# Altium schematic symbol library LFI Power BoardSchlib1.SchLib: 48 symbols
Pins are listed as number, name and electrical type; pins without a type are passive.

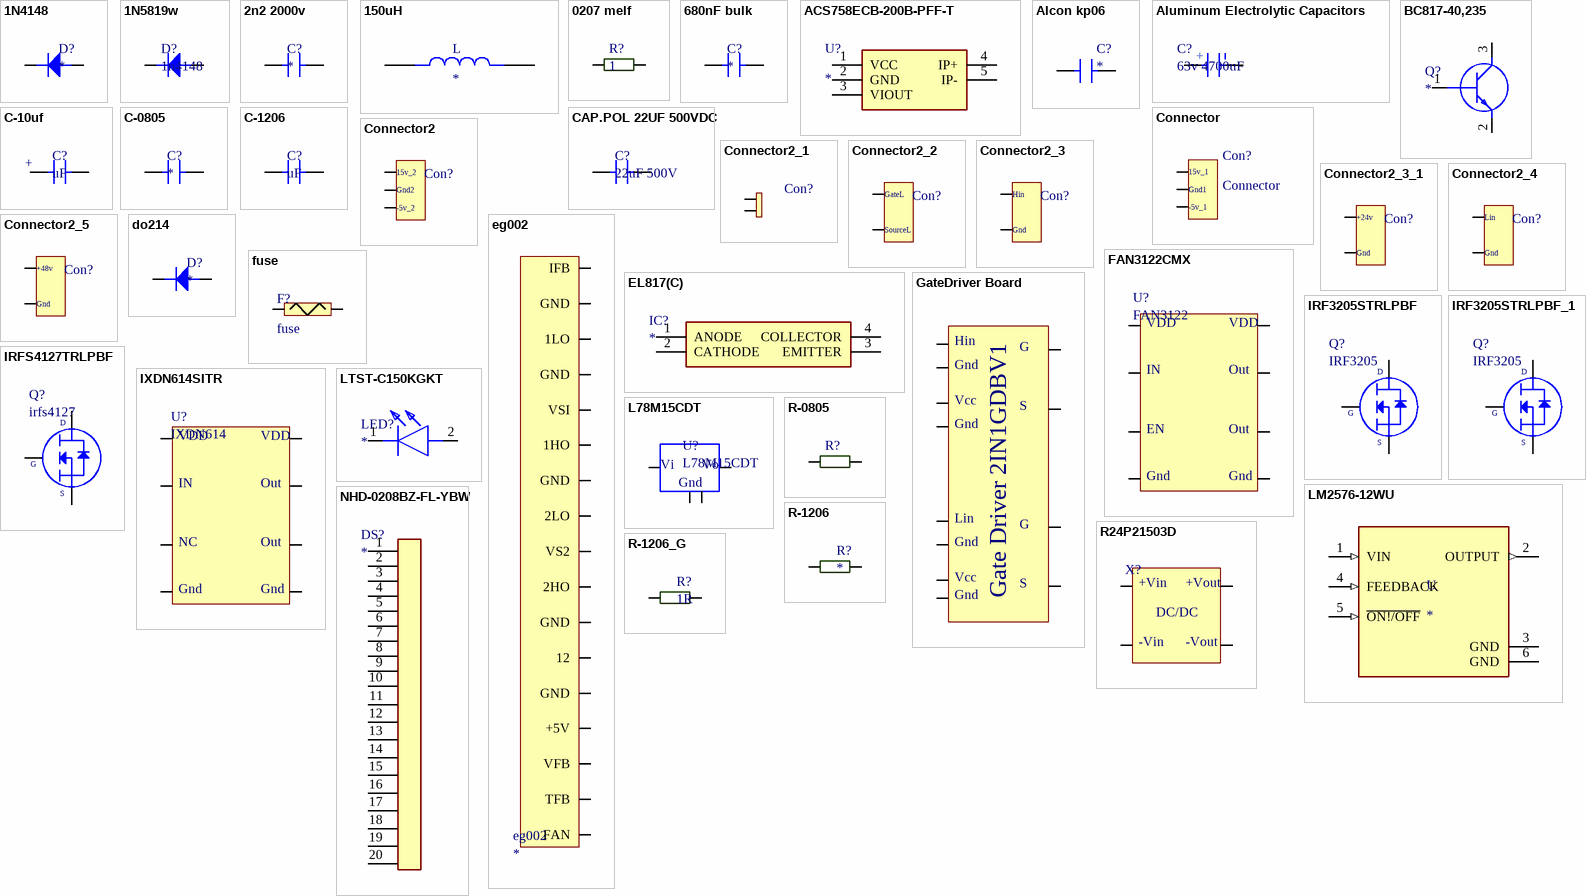
[diagram p0: symbols 1N4148 to R-1206_G]

## 1N4148
designator D?
DIODE FAST SWITCHING Single 150mA 75V SMT SOD323
footprint SOD123
pins: a, k

## 1N5819w
designator D?, comment 1n4148
Diode Small Signal Switching 100V 0.15A 2-Pin SOD-123 T/R; Manufacturer: Vishay; Manufacturer Part Number: 1N4148W-E3-18; Recovery Time: 4ns; Max Power Dissipation: 350mW; Forward Current: 150mA; Max Surge Current: 2A; Forward Voltage: 1.2V; Max Reverse Leakage Current: 5uA; Element Configuration: Single; Max Reverse Voltage (DC): 75V; Peak Reverse Current: 100uA; Supplier 1: Allied Electronics; RoHS: Yes; Stock 1: 6838; Pricing 1: 1 = 0.03900, 25 = 0.03800, 100 = 0.03600, 250 = 0.03400, 500 = 0.03200, 1000 = 0.03100, 2500 = 0.02900 (USD); Mount: Surface Mount; Number of Pins: 2; Weight: 0.000363oz; Contact Plating: Tin; Min Operating Temperature: -55°C; Max Operating Temperature: 150°C; Packaging: Tape and Reel; Package Quantity: 10000; Average Rectified Current: 150mA; Reverse Recovery Time: 4ns; Power Dissipation: 350mW; Max Repetitive Reverse Voltage (Vrrm): 100V; Peak Non-Repetitive Surge Current: 2A; Length: 2.85mm; Height: 1.25mm; Width: 1.7mm; Radiation Hardening: No; Lead Free: Lead Free; ComponentLink1URL: https://datasheet.ciiva.com/29885/1n4148w-29885941.pdf?src-supplier=Avnet; ComponentLink1Description: https://datasheet.ciiva.com/29885/1n4148w-29885941.pdf?src-supplier=Avnet; ComponentLink2URL: https://datasheet.ciiva.com/29593/1n4148w-29593113.pdf?src-supplier=Digi-Key; ComponentLink2Description: https://datasheet.ciiva.com/29593/1n4148w-29593113.pdf?src-supplier=Digi-Key; ComponentLink3URL: https://datasheet.ciiva.com/29593/1n4148w-29593111.pdf?src-supplier=Digi-Key; ComponentLink3Description: https://datasheet.ciiva.com/29593/1n4148w-29593111.pdf?src-supplier=Digi-Key; ComponentLink4URL: https://datasheet.ciiva.com/29593/1n4148w-29593112.pdf?src-supplier=Digi-Key; ComponentLink4Description: https://datasheet.ciiva.com/29593/1n4148w-29593112.pdf?src-supplier=Digi-Key; Supplier Part Number 1: 70061597
footprint SOD123
pins: a, k

## 2n2 2000v
designator C?
footprint 2n2 2000v
pins: 1, 2

## 150uH
designator L
Inductor with Inductance: 150uH Tol. +/-20%, Package: 2929 _7373_; MF: Murata; MP: B1047AS-151M=P3; Value: *; SnapEDA_Link: https://www.snapeda.com/parts/B1047AS-151M%3DP3/Murata/view-part/4548598/?ref=snap; Availability: Unavailable; Package: NONSTANDARD; Price: None
footprint IND_B1047AS-151M=P3
pins: 1, 2

## 0207 melf
designator R?, comment 1
ComponentLink1Description: https://www.ozdisan.com/pasif-komponentler/direncler/smt-smd-direncler/M271UFG100KT20; ComponentLink1URL: https://www.ozdisan.com/pasif-komponentler/direncler/smt-smd-direncler/M271UFG100KT20
footprint R-2512W (resistor 2512 wave soldering)
pins: 1, 2

## 680nF bulk
designator C?
footprint 680nF bulk
pins: 1, 2

## ACS758ECB-200B-PFF-T
designator U?
Undefined or Miscellaneous; Manufacturer_Name: Allegro Microsystems; Manufacturer_Part_Number: ACS758ECB-200B-PFF-T; Datasheet Link: http://www.farnell.com/datasheets/926109.pdf; Arrow Part Number: ACS758ECB-200B-PFF-T; Arrow Price/Stock: https://www.arrow.com/en/products/acs758ecb-200b-pff-t/allegro-microsystems
footprint ACS756SCA-050B-PFF-T_2
pins: 1 VCC, 2 GND, 3 VIOUT, 4 IP+, 5 IP-

## Alcon kp06
designator C?
footprint AlconKp06
pins: 1, 2

## Aluminum Electrolytic Capacitors
designator C?, comment 63v 4700uF
PKL5-063V472MM450 Aluminum Electrolytic Capacitors - Snap In 63volts 4700uF 20%; Manufacturer: Nichicon; Manufacturer Part Number: LKS1J472MESZ; Capacitance: 4.7mF; Ripple Current: 3A; Life (Hours): 1000Hour; Supplier 1: Mouser; RoHS: Yes; Mount: Through Hole; Case/Package: Radial; Min Operating Temperature: -40°C; Max Operating Temperature: 85°C; Package Quantity: 250; Voltage Rating: 63V; Tolerance: 20%; Packaging: Bulk; Voltage Rating (DC): 63V; Termination: Snap in; Diameter: 22mm; Length: 45mm; Lead Pitch: 0.394inch; Height - Seated (Max): 1.772inch; Supplier Part Number 1: 647-LKS1J472MESZ; ComponentLink2Description: https://www.ozdisan.com/pasif-komponentler/kondansatorler/aluminyum-kondansatorler/PKL5-063V472MM450; ComponentLink2URL: https://www.ozdisan.com/pasif-komponentler/kondansatorler/aluminyum-kondansatorler/PKL5-063V472MM450
footprint Koshin 63v 4700 cap
pins: 1, 2
text: +

## BC817-40,235
designator Q?
Transistor BJT NPN; Manufacturer_Name: Nexperia; Manufacturer_Part_Number: BC817-40,235; Datasheet Link: http://assets.nexperia.com/documents/data-sheet/BC817_BC817W_BC337.pdf; Height: 1.1mm; Mouser Part Number: 771-BC817-40235; Mouser Price/Stock: https://www.mouser.com/Search/Refine.aspx?Keyword=771-BC817-40235; RS Part Number: 1707957; RS Price/Stock: http://uk.rs-online.com/web/p/products/1707957
footprint SOT95P230X110-3N
pins: 1 B, 2 E, 3 C

## C-10uf
designator C?, comment uF
footprint CapSmdElc (Aluminum Electrolytic Capacitor, Body 6.70x6.70x6.30mm, IPC Low Density)
pins: 1, 2
text: +

## C-0805
designator C?
footprint C-0805
footprint C-0805
pins: 1, 2

## C-1206
designator C?, comment uF
footprint C-1206
pins: 1, 2

## CAP.POL 22UF 500VDC
designator C?, comment 22uF 500V
ComponentLink1Description: https://www.ozdisan.com/pasif-komponentler/kondansatorler/film-kondansatorler/C3D2H226JB00C00; ComponentLink1URL: https://www.ozdisan.com/pasif-komponentler/kondansatorler/film-kondansatorler/C3D2H226JB00C00
footprint CAP.POL 22UF 500VDC - duplicate
pins: 1, 2

## Connector
designator Con?
footprint Output Connector
pins: 1, 2, 3
text: 15v_1; Gnd1; -5v_1

## Connector2
designator Con?  (value not drawn)
footprint Output Connector
pins: 1, 2, 3
text: 15v_2; Gnd2; -5v_2

## Connector2_1
designator Con?  (value not drawn)
System: Connector
footprint 2pinCon
pins: 1, 2

## Connector2_2
designator Con?  (value not drawn)
System: Connector
footprint Conn
pins: 1, 2
text: GateL; SourceL

## Connector2_3
designator Con?  (value not drawn)
System: Connector
footprint Conn
pins: 1, 2
text: Hin; Gnd

## Connector2_3_1
designator Con?  (value not drawn)
System: Connector
footprint Conn
pins: 1, 2
text: +24v; Gnd

## Connector2_4
designator Con?  (value not drawn)
System: Connector
footprint Conn
pins: 1, 2
text: Lin; Gnd

## Connector2_5
designator Con?  (value not drawn)
System: Connector
footprint Conn
pins: 1, 2
text: +48v; Gnd

## do214
designator D?
DIODE FAST SWITCHING Single 150mA 75V SMT SOD323
footprint DO-214AC
pins: a, k

## eg002
designator eg002
footprint eg002
footprint eg002
pins: 1 IFB, 2 GND, 3 1LO, 4 GND, 5 VSI, 6 1HO, 7 GND, 8 2LO, 9 VS2, 10 2HO, 11 GND, 12, 13 GND, 14 +5V, 15 VFB, 16 TFB, 17 FAN

## EL817(C)
designator IC?
Integrated Circuit; Manufacturer_Name: Everlight; Manufacturer_Part_Number: EL817(C); Datasheet Link: https://componentsearchengine.com/Datasheets/1/EL817(C).pdf; Height: 4.8mm; Mouser Part Number: 638-EL817C; Mouser Price/Stock: https://www.mouser.com/Search/Refine.aspx?Keyword=638-EL817C
footprint DIP762W60P254L458H480Q4N
pins: 1 ANODE, 2 CATHODE, 3 EMITTER, 4 COLLECTOR

## FAN3122CMX
designator U?, comment FAN3122
FAIRCHILD SEMICONDUCTOR         FAN3122CMX             MOSFET Driver, Low Side, 4.5V-18V Supply, 11.4A Out, 18ns Delay, SOIC-8; Manufacturer: ON Semiconductor / Fairchild; Min Supply Voltage: 4.5V; Max Supply Voltage: 18V; Rise Time: 29ns; Propagation Delay: 28ns; Number of Outputs: 1; Output Current: 9.7A; Nominal Supply Current: 580uA; Max Power Dissipation: 396mW; Fall Time: 27ns; Max Supply Current: 850uA; Operating Supply Voltage: 12V; Supplier 1: Digi-Key; Manufacturer Part Number: FAN3122CMX; RoHS: Yes; Stock 1: 11955; Pricing 1: 1 = 1.61000, 10 = 1.44700, 100 = 1.16280, 500 = 0.95532, 1000 = 0.79156 (USD); Mount: Surface Mount; Case/Package: SOIC; Number of Pins: 8; Weight: 0.2304g; Min Operating Temperature: -40°C; Max Operating Temperature: 125°C; Max Output Current: 11.4A; Packaging: Tape and Reel; Package Quantity: 1; Number of Drivers: 1; Turn-On Delay Time: 28ns; Length: 4.9mm; Height: 1.575mm; Width: 3.9mm; Radiation Hardening: No; REACH SVHC: No SVHC; Lead Free: Lead Free; ComponentLink1URL: https://datasheet.ciiva.com/15110/getdatasheetpartid-552243-15110699.pdf?src-supplier=Verical; ComponentLink1Description: https://datasheet.ciiva.com/15110/getdatasheetpartid-552243-15110699.pdf?src-supplier=Verical; ComponentLink2URL: https://datasheet.ciiva.com/1499/1880992-1499158.pdf?src-supplier=Element14; ComponentLink2Description: https://datasheet.ciiva.com/1499/1880992-1499158.pdf?src-supplier=Element14; ComponentLink3URL: https://datasheet.ciiva.com/1949/fan3121c-1949736.pdf?src-supplier=Digi-Key; ComponentLink3Description: https://datasheet.ciiva.com/1949/fan3121c-1949736.pdf?src-supplier=Digi-Key; ComponentLink4URL: https://datasheet.ciiva.com/1949/fan3121c-1949737.pdf?src-supplier=Digi-Key; ComponentLink4Description: https://datasheet.ciiva.com/1949/fan3121c-1949737.pdf?src-supplier=Digi-Key; ComponentLink5URL: https://datasheet.ciiva.com/3226/fan3122c-3226953.pdf?src-supplier=Avnet; ComponentLink5Description: https://datasheet.ciiva.com/3226/fan3122c-3226953.pdf?src-supplier=Avnet; ComponentLink6URL: https://datasheet.ciiva.com/1949/fan3121c-1949738.pdf?src-supplier=Digi-Key; ComponentLink6Description: https://datasheet.ciiva.com/1949/fan3121c-1949738.pdf?src-supplier=Digi-Key; ComponentLink7URL: https://datasheet.ciiva.com/48696/001252336-da-01-en-ic-gate-dvr-sgl-9a-fan3122cmx-soic-8-fsc-48696086.pdf?src-supplier=Conrad; ComponentLink7Description: https://datasheet.ciiva.com/48696/001252336-da-01-en-ic-gate-dvr-sgl-9a-fan3122cmx-soic-8-fsc-48696086.pdf?src-supplier=Conrad; Supplier Part Number 1: FAN3122CMXCT-ND
footprint FAN3122 Soic8 (SOIC, 8-Leads, Body 4.95x3.95mm, Pitch 1.27mm, Thermal Pad 4.10x3.10mm, IPC Medium Density)
pins: 1, 2, 3, 4, 5, 6, 7, 8
text: VDD; IN; Out; EN; Gnd

## fuse
designator F?
footprint Fuse
pins: 1, 2

## GateDriver Board
designator G?  (value not drawn)
footprint Gate Driver
pins: 1, 2, 3, 4, 5, 6, 7, 8, 9, 10, 11, 12
text: Hin; G; Gnd; Vcc; S; Lin; Gate Driver 2IN1GDBV1

## IRF3205STRLPBF
designator Q?, comment IRF3205
MOSFET N-CH 55V 110A D2PAK; Manufacturer: Infineon; Manufacturer Part Number: IRF3205STRLPBF; Rds On Max: 8mR; Input Capacitance: 3.247nF; Max Power Dissipation: 200W; Turn-Off Delay Time: 50ns; Turn-On Delay Time: 14ns; Gate to Source Voltage (Vgs): 20V; Threshold Voltage: 4V; Supplier 1: Digi-Key; RoHS: Yes; Stock 1: 3281; Pricing 1: 1 = 1,84000, 10 = 1,66600, 100 = 1,33840 (USD); Mount: Surface Mount; Case/Package: D2PAK; Number of Pins: 3; Min Operating Temperature: -55°C; Max Operating Temperature: 175°C; Packaging: Cut Tape; Drain to Source Voltage (Vdss): 55V; Continuous Drain Current (ID): 110A; Power Dissipation: 200W; Drain to Source Resistance: 8mR; Drain to Source Breakdown Voltage: 55V; Length: 0.42inch; Height: 0.19inch; Width: 0.38inch; REACH SVHC: No SVHC; Lead Free: Lead Free; ComponentLink1URL: https://www.alliedelec.com/m/d/b8827ca43655240244f0cc5c2198e6b1.pdf?src-supplier=Allied+Electronics; ComponentLink1Description: https://www.alliedelec.com/m/d/b8827ca43655240244f0cc5c2198e6b1.pdf?src-supplier=Allied+Electronics; ComponentLink2URL: https://www.infineon.com/dgdl/irf3205spbf.pdf?fileId=5546d462533600a4015355defac9190c&src-supplier=Digi-Key; ComponentLink2Description: https://www.infineon.com/dgdl/irf3205spbf.pdf?fileId=5546d462533600a4015355defac9190c&src-supplier=Digi-Key; ComponentLink3URL: http://www.infineon.com/dgdl/irf3205spbf.pdf?fileId=5546d462533600a4015355defac9190c&src-supplier=Digi-Key; ComponentLink3Description: http://www.infineon.com/dgdl/irf3205spbf.pdf?fileId=5546d462533600a4015355defac9190c&src-supplier=Digi-Key; ComponentLink4URL: http://www.farnell.com/datasheets/1884183.pdf?src-supplier=Element14; ComponentLink4Description: http://www.farnell.com/datasheets/1884183.pdf?src-supplier=Element14; Supplier Part Number 1: IRF3205STRLPBFCT-ND
footprint DPAK_TO263 (D2-PAK, 3-Pads, Body 7.93x8.70mm (max), IPC Medium Density)
footprint DPAK_TO263 (D2-PAK, 3-Pads, Body 7.93x8.70mm (max), IPC Medium Density)
pins: 1, 2, 3
text: D; G; S

## IRF3205STRLPBF_1
designator Q?, comment IRF3205
MOSFET N-CH 55V 110A D2PAK; Manufacturer: Infineon; Manufacturer Part Number: IRF3205STRLPBF; Rds On Max: 8mR; Input Capacitance: 3.247nF; Max Power Dissipation: 200W; Turn-Off Delay Time: 50ns; Turn-On Delay Time: 14ns; Gate to Source Voltage (Vgs): 20V; Threshold Voltage: 4V; Supplier 1: Digi-Key; RoHS: Yes; Stock 1: 3281; Pricing 1: 1 = 1,84000, 10 = 1,66600, 100 = 1,33840 (USD); Mount: Surface Mount; Case/Package: D2PAK; Number of Pins: 3; Min Operating Temperature: -55°C; Max Operating Temperature: 175°C; Packaging: Cut Tape; Drain to Source Voltage (Vdss): 55V; Continuous Drain Current (ID): 110A; Power Dissipation: 200W; Drain to Source Resistance: 8mR; Drain to Source Breakdown Voltage: 55V; Length: 0.42inch; Height: 0.19inch; Width: 0.38inch; REACH SVHC: No SVHC; Lead Free: Lead Free; ComponentLink1URL: https://www.alliedelec.com/m/d/b8827ca43655240244f0cc5c2198e6b1.pdf?src-supplier=Allied+Electronics; ComponentLink1Description: https://www.alliedelec.com/m/d/b8827ca43655240244f0cc5c2198e6b1.pdf?src-supplier=Allied+Electronics; ComponentLink2URL: https://www.infineon.com/dgdl/irf3205spbf.pdf?fileId=5546d462533600a4015355defac9190c&src-supplier=Digi-Key; ComponentLink2Description: https://www.infineon.com/dgdl/irf3205spbf.pdf?fileId=5546d462533600a4015355defac9190c&src-supplier=Digi-Key; ComponentLink3URL: http://www.infineon.com/dgdl/irf3205spbf.pdf?fileId=5546d462533600a4015355defac9190c&src-supplier=Digi-Key; ComponentLink3Description: http://www.infineon.com/dgdl/irf3205spbf.pdf?fileId=5546d462533600a4015355defac9190c&src-supplier=Digi-Key; ComponentLink4URL: http://www.farnell.com/datasheets/1884183.pdf?src-supplier=Element14; ComponentLink4Description: http://www.farnell.com/datasheets/1884183.pdf?src-supplier=Element14; Supplier Part Number 1: IRF3205STRLPBFCT-ND
footprint DPAK_TO263 (D2-PAK, 3-Pads, Body 7.93x8.70mm (max), IPC Medium Density)
footprint DPAK_TO263 (D2-PAK, 3-Pads, Body 7.93x8.70mm (max), IPC Medium Density)
pins: 1, 2, 3
text: D; G; S

## IRFS4127TRLPBF
designator Q?, comment irfs4127
MOSFET N-CH 200V 72A D2PAK; Manufacturer: International Rectifier; Manufacturer Part Number: IRFS4127TRLPBF; Rds On Max: 22mR; Input Capacitance: 5.38nF; Rise Time: 18ns; Max Power Dissipation: 375W; Fall Time: 22ns; Turn-Off Delay Time: 56ns; Turn-On Delay Time: 17ns; Element Configuration: Single; Gate to Source Voltage (Vgs): 20V; Supplier 1: Digi-Key; RoHS: Yes; Stock 1: 15054; Pricing 1: 1 = 3,97000, 10 = 3,54100, 100 = 2,90330 (USD); Mount: Surface Mount; Case/Package: D2PAK; Number of Pins: 3; Min Operating Temperature: -55°C; Max Operating Temperature: 175°C; Package Quantity: 1; Packaging: Tape and Reel; Drain to Source Voltage (Vdss): 200V; Continuous Drain Current (ID): 72A; Drain to Source Breakdown Voltage: 200V; Drain to Source Resistance: 22mR; Power Dissipation: 375W; On-State Resistance: 22MR; ComponentLink1URL: https://datasheet.ciiva.com/939/irfs4127pbf-939456.pdf?src-supplier=Digi-Key; ComponentLink1Description: https://datasheet.ciiva.com/939/irfs4127pbf-939456.pdf?src-supplier=Digi-Key; ComponentLink2URL: https://datasheet.ciiva.com/939/irfs4127pbf-939457.pdf?src-supplier=Digi-Key; ComponentLink2Description: https://datasheet.ciiva.com/939/irfs4127pbf-939457.pdf?src-supplier=Digi-Key; ComponentLink3URL: https://datasheet.ciiva.com/939/irfs4127pbf-939458.pdf?src-supplier=Digi-Key; ComponentLink3Description: https://datasheet.ciiva.com/939/irfs4127pbf-939458.pdf?src-supplier=Digi-Key; ComponentLink4URL: https://datasheet.ciiva.com/16221/irfs4127pbf-16221031.pdf?src-supplier=Future+Electronics; ComponentLink4Description: https://datasheet.ciiva.com/16221/irfs4127pbf-16221031.pdf?src-supplier=Future+Electronics; Supplier Part Number 1: IRFS4127TRLPBFCT-ND
footprint DPAK_TO263 (D2-PAK, 3-Pads, Body 7.93x8.70mm (max), IPC Medium Density)
footprint DPAK_TO263 (D2-PAK, 3-Pads, Body 7.93x8.70mm (max), IPC Medium Density)
pins: 1, 2, 3
text: D; G; S

## IXDN614SITR
designator U?, comment IXDN614
14A 8SOIC EXP MTL NON INVERTING; Manufacturer: Ixys Clare; Manufacturer Part Number: IXDN614SITR; Rise Time: 35ns; Propagation Delay: 70ns; Max Supply Voltage: 35V; Min Supply Voltage: 4.5V; Number of Outputs: 1; Fall Time: 25ns; Supplier 1: Mouser; RoHS: Yes; Pricing 1: 1 = 4.24000, 10 = 3.79000, 50 = 3.41000, 100 = 3.10000, 1000 = 2.12000, 10000 = 1.90000 (USD); Mount: Surface Mount; Case/Package: SOIC; Number of Pins: 8; Min Operating Temperature: -40°C; Max Operating Temperature: 125°C; Max Output Current: 14A; Packaging: Tape and Reel; Package Quantity: 2000; Number of Drivers: 1; Lead Free: Lead Free; ComponentLink1URL: https://datasheet.ciiva.com/6613/ixd-614-6613145.pdf?src-supplier=Digi-Key; ComponentLink1Description: https://datasheet.ciiva.com/6613/ixd-614-6613145.pdf?src-supplier=Digi-Key; Supplier Part Number 1: 849-IXDN614SITR
footprint FAN3122 Soic8 (SOIC, 8-Leads, Body 4.95x3.95mm, Pitch 1.27mm, Thermal Pad 4.10x3.10mm, IPC Medium Density)
pins: 1, 2, 3, 4, 5, 6, 7, 8
text: VDD; IN; Out; NC; Gnd

## L78M15CDT
designator U?
Linear Voltage Regulators 15V 0.5A Positive; Manufacturer: STMicroelectronics; Max Output Current: 500mA; Number of Outputs: 1; Max Input Voltage: 35V; Quiescent Current: 6mA; Output Type: Fixed; Dropout Voltage: 2V; Supplier 1: Avnet; Manufacturer Part Number: L78M15CDT; RoHS: Yes; Mount: Surface Mount; Case/Package: DPAK; Number of Pins: 3; Min Operating Temperature: 0°C; Max Operating Temperature: 150°C; Output Voltage: 15V; Polarity: Positive; Packaging: Rail/Tube; Output Current: 500mA; Min Input Voltage: 35V; Package Quantity: 75; Length: 6.6mm; Height: 2.4mm; Width: 6.2mm; Radiation Hardening: No; ComponentLink1URL: http://docs-usa.electrocomponents.com/techlib:/itc_doclist_US.htm?stockno=1890999&src-supplier=Allied+Electronics; ComponentLink1Description: http://docs-usa.electrocomponents.com/techlib:/itc_doclist_US.htm?stockno=1890999&src-supplier=Allied+Electronics; ComponentLink2URL: http://www.st.com/web/en/resource/technical/document/datasheet/CD00000447.pdf?src-supplier=Avnet+Europe; ComponentLink2Description: http://www.st.com/web/en/resource/technical/document/datasheet/CD00000447.pdf?src-supplier=Avnet+Europe; ComponentLink3URL: http://www.mouser.com/ds/2/389/stmicroelectronics_cd00000447-329548.pdf?src-supplier=Mouser; ComponentLink3Description: http://www.mouser.com/ds/2/389/stmicroelectronics_cd00000447-329548.pdf?src-supplier=Mouser; Supplier Part Number 1: L78M15CDT
footprint TO-252
pins: 1, 2, 3, 4
text: Vi; Vo; Gnd

## LM2576-12WU
designator U
Buck Switching Regulator IC Positive Fixed 12V 1 Output 3A TO-263-6, DÂ²Pak _5 Leads + Tab_, TO-263BA; MP: LM2576-12WU; MF: Microchip; Package: TO-263-5 Microchip; Value: *; SnapEDA_Link: https://www.snapeda.com/parts/LM2576-12WU/Microchip/view-part/2873733/?ref=snap; Price: None; Availability: Unavailable
footprint TO17P1435X465-6N
pins: 1 VIN (in), 2 OUTPUT (out), 3 GND (power), 4 FEEDBACK (in), 5 ~{ON!/OFF} (in), 6 GND (power)

## LTST-C150KGKT
designator LED?
LED; Manufacturer_Name: Lite-On; Manufacturer_Part_Number: LTST-C150KGKT; Datasheet Link: http://optoelectronics.liteon.com/upload/download/ds22-2000-072/ltst-c150kgkt.pdf; Height: 1.2mm; Mouser Part Number: 859-LTST-C150KGKT; Mouser Price/Stock: https://www.mouser.com/Search/Refine.aspx?Keyword=859-LTST-C150KGKT; RS Part Number: 6920871; RS Price/Stock: https://uk.rs-online.com/web/p/products/6920871
footprint L-1206
footprint L-1206
pins: 1 K, 2 A

## NHD-0208BZ-FL-YBW
designator DS?
Display; Manufacturer_Name: Newhaven Display; Manufacturer_Part_Number: NHD-0208BZ-FL-YBW; Allied_Number: 70518052; Datasheet Link: https://www.newhavendisplay.com/specs/NHD-0208BZ-FL-YBW.pdf; Height: 13.5mm; Mouser Part Number: 763-0208BZ-FL-YBW; Mouser Price/Stock: https://www.mouser.com/Search/Refine.aspx?Keyword=763-0208BZ-FL-YBW; Allied Price/Stock: https://www.alliedelec.com/newhavendisplayinternational-nhd-0208bz-fl-ybw/70518052/
footprint idc20
pins: 1 VSS, 2 VDD, 3 V0, 4 RS, 5 R/W, 6 E, 7 DB0, 8 DB1, 9 DB2, 10 DB3, 11 DB4, 12 DB5, 13 DB6, 14 DB7, 15, 16, 17, 18, 19, 20

## R24P21503D
designator X?
Manufacturer: Recom; Manufacturer Part Number: R24P21503D; Max Output Voltage: 15V; Supplier 1: Digi-Key; RoHS: No; Stock 1: 378; Pricing 1: 1 = 8.78000, 5 = 8.71200, 10 = 8.64500, 25 = 8.51200, 50 = 8.24600, 100 = 7.44800, 250 = 7.31500, 500 = 7.18200 (USD); Weight: 4.3g; Length: 19.5mm; Height: 12.5mm; Width: 9.8mm; Supplier Part Number 1: 945-3071-5-ND
footprint SIP7
pins: 1, 2, 5, 7
text: +Vin; +Vout; DC/DC; -Vin; -Vout

## R-0805
designator R?
footprint R-0805
footprint R-0805
pins: 1, 2

## R-1206
designator R?
Res1206
footprint R-1206
pins: 1, 2

## R-1206_G
designator R?, comment 1R
1206S4F100KT5E; ComponentLink1Description: https://www.ozdisan.com/pasif-komponentler/direncler/smt-smd-direncler/1206S4F100KT5E; ComponentLink1URL: https://www.ozdisan.com/pasif-komponentler/direncler/smt-smd-direncler/1206S4F100KT5E
footprint R-1206
pins: 1, 2

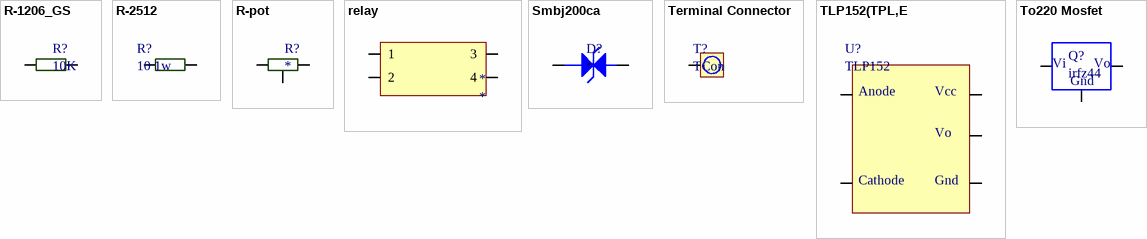
[diagram p1: symbols R-1206_GS to To220 Mosfet]

## R-1206_GS
designator R?, comment 10K
1206S4F1002T5E; ComponentLink1Description: link; ComponentLink1URL: https://www.ozdisan.com/pasif-komponentler/direncler/smt-smd-direncler/1206S4F1002T5E
footprint R-1206
pins: 1, 2

## R-2512
designator R?, comment 10 1w
footprint R-2512
footprint R-2512
pins: 1, 2

## R-pot
designator R?
Res1206
footprint pot
pins: 1, 2, 3

## relay
designator *
footprint Relay
pins: 1, 2, 3, 4

## Smbj200ca
designator D?
footprint DO214AA
pins: 1, 2

## Terminal Connector
designator T?, comment TCon
ComponentLink1Description: https://www.ozdisan.com/konnektor-baglanti-elemanlari/terminal-konnektorler/vida-tipi-konnektorler/K36-00AH; ComponentLink1URL: https://www.ozdisan.com/konnektor-baglanti-elemanlari/terminal-konnektorler/vida-tipi-konnektorler/K36-00AH
footprint tCon
footprint tCon
pins: 1

## TLP152(TPL,E
designator U?, comment TLP152
OPTOISO 3.75KV GATE DRIVER 6SO-5; Manufacturer: Toshiba; Manufacturer Part Number: TLP152(TPL,E; Number of Channels: 1; Propagation Delay: 165ns; Max Power Dissipation: 260mW; Direction: Unidirectional; Turn-On Delay Time: 190ns; Fall Time: 22ns; Forward Voltage: 1.57V; Output Current: 2.5A; Forward Current: 10mA; Rise Time: 18ns; High Level Output Current: 2A; Pulse Width Distortion (PWD): 50ns; Supplier 1: Mouser; RoHS: Yes; Stock 1: 22321; Pricing 1: 1 = 1.55000, 10 = 0.96800, 50 = 0.96800, 100 = 0.87200, 1000 = 0.54300, 10000 = 0.44000 (USD); Mount: Surface Mount; Case/Package: SO; Number of Pins: 5; Min Operating Temperature: -40°C; Max Operating Temperature: 100°C; Packaging: Tape and Reel; Package Quantity: 3000; Low Level Output Current: 2A; Max Output Current: 2.5A; ComponentLink1URL: https://datasheet.ciiva.com/41848/tlp152-datasheet-en-20120914-41848928.pdf?src-supplier=Digi-Key; ComponentLink1Description: https://datasheet.ciiva.com/41848/tlp152-datasheet-en-20120914-41848928.pdf?src-supplier=Digi-Key; Supplier Part Number 1: 757-TLP152TPLE
footprint TLP152 (SOTFL, 5-Leads, Body 3.75x7.20mm, Pitch 1.27mm, IPC Medium Density)
pins: 1, 2, 3, 4, 5
text: Anode; Vcc; Vo; Cathode; Gnd

## To220 Mosfet
designator Q?, comment irfz44
footprint TO254P483X1016X1994-3P
footprint TO-252
pins: 1, 2, 3
text: Vi; Vo; Gnd